# Altium schematic symbol library SCH - MCU - ATSAM - MICROCHIP ATSAMS70Q19A-AN LQFP144.SchLib: 1 symbol
Pins are listed as number, name and electrical type; pins without a type are passive.

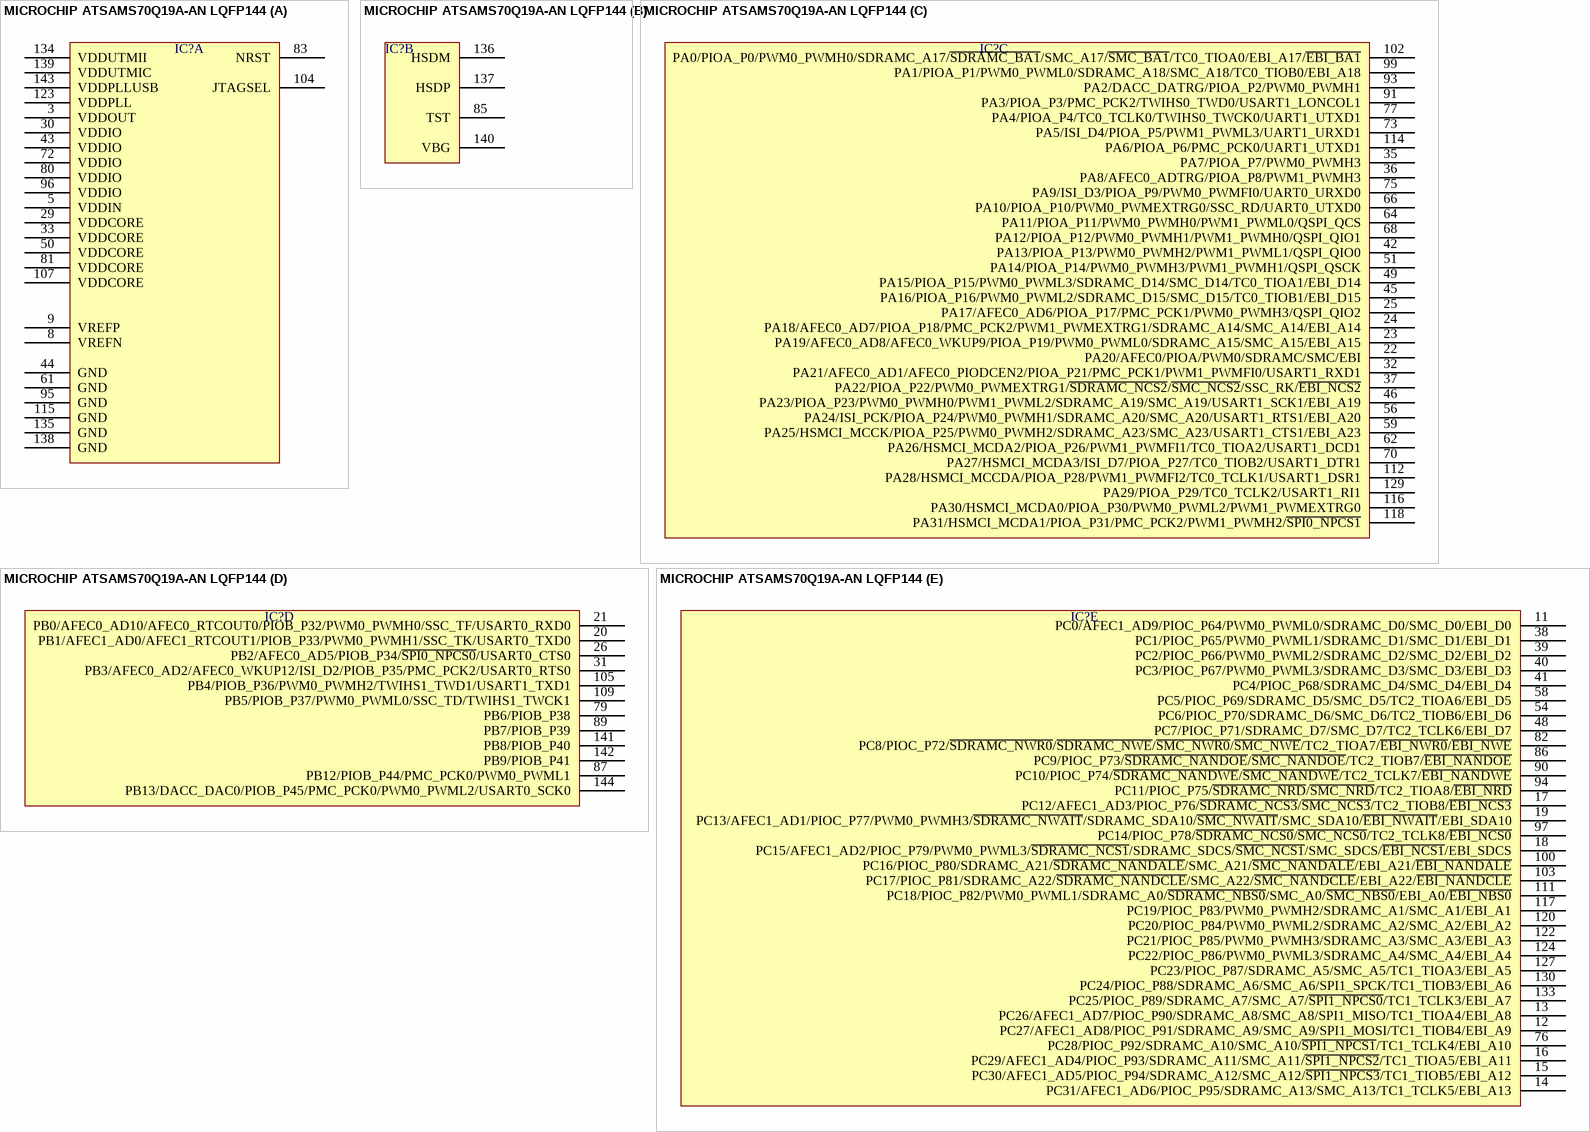
[diagram p0: symbol MICROCHIP ATSAMS70Q19A-AN LQFP144]

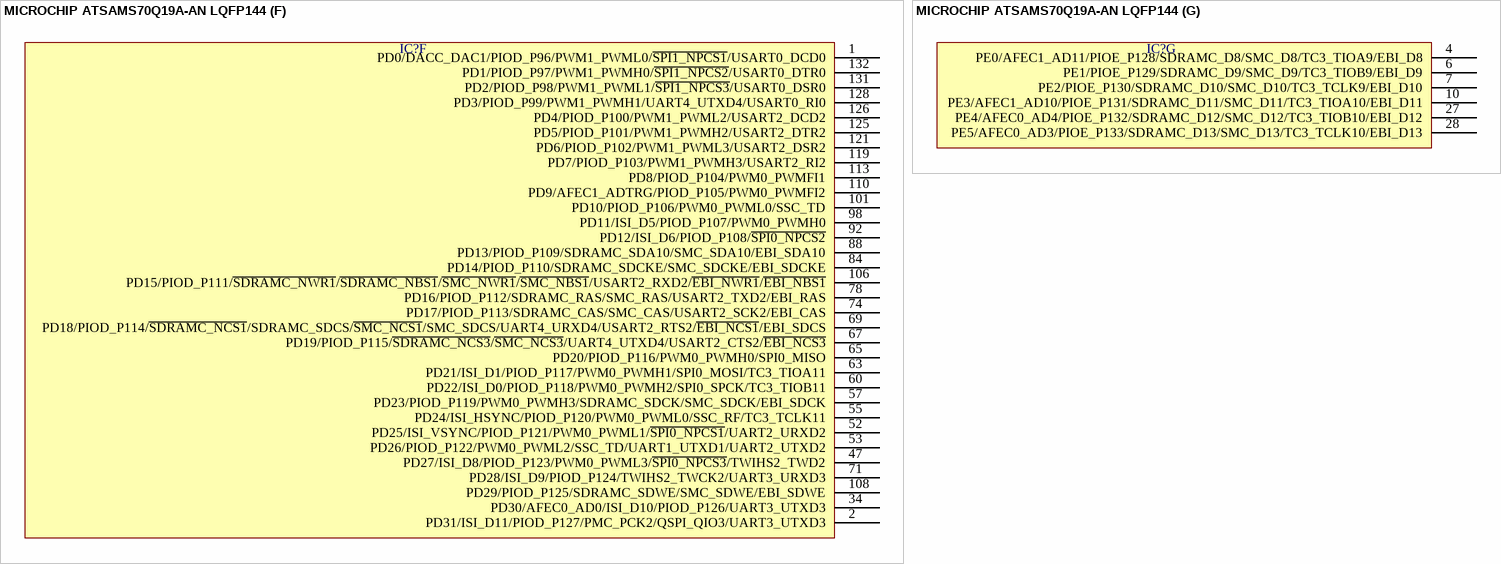
[diagram p1: symbol MICROCHIP ATSAMS70Q19A-AN LQFP144]

## MICROCHIP ATSAMS70Q19A-AN LQFP144
designator IC?  (value not drawn)
part A pins: 3 VDDOUT, 5 VDDIN, 8 VREFN, 9 VREFP, 29 VDDCORE, 30 VDDIO, 33 VDDCORE, 43 VDDIO, 44 GND, 50 VDDCORE, 61 GND, 72 VDDIO, 80 VDDIO, 81 VDDCORE, 83 NRST, 95 GND, 96 VDDIO, 104 JTAGSEL, 107 VDDCORE, 115 GND, 123 VDDPLL, 134 VDDUTMII, 135 GND, 138 GND, 139 VDDUTMIC, 143 VDDPLLUSB
part B pins: 85 TST, 136 HSDM, 137 HSDP, 140 VBG
part C pins: 22 PA20/AFEC0/PIOA/PWM0/SDRAMC/SMC/EBI, 23 PA19/AFEC0_AD8/AFEC0_WKUP9/PIOA_P19/PWM0_PWML0/SDRAMC_A15/SMC_A15/EBI_A15, 24 PA18/AFEC0_AD7/PIOA_P18/PMC_PCK2/PWM1_PWMEXTRG1/SDRAMC_A14/SMC_A14/EBI_A14, 25 PA17/AFEC0_AD6/PIOA_P17/PMC_PCK1/PWM0_PWMH3/QSPI_QIO2, 32 PA21/AFEC0_AD1/AFEC0_PIODCEN2/PIOA_P21/PMC_PCK1/PWM1_PWMFI0/USART1_RXD1, 35 PA7/PIOA_P7/PWM0_PWMH3, 36 PA8/AFEC0_ADTRG/PIOA_P8/PWM1_PWMH3, 37 PA22/PIOA_P22/PWM0_PWMEXTRG1/~{SDRAMC_NCS2}/~{SMC_NCS2}/SSC_RK/~{EBI_NCS2}, 42 PA13/PIOA_P13/PWM0_PWMH2/PWM1_PWML1/QSPI_QIO0, 45 PA16/PIOA_P16/PWM0_PWML2/SDRAMC_D15/SMC_D15/TC0_TIOB1/EBI_D15, 46 PA23/PIOA_P23/PWM0_PWMH0/PWM1_PWML2/SDRAMC_A19/SMC_A19/USART1_SCK1/EBI_A19, 49 PA15/PIOA_P15/PWM0_PWML3/SDRAMC_D14/SMC_D14/TC0_TIOA1/EBI_D14, 51 PA14/PIOA_P14/PWM0_PWMH3/PWM1_PWMH1/QSPI_QSCK, 56 PA24/ISI_PCK/PIOA_P24/PWM0_PWMH1/SDRAMC_A20/SMC_A20/USART1_RTS1/EBI_A20, 59 PA25/HSMCI_MCCK/PIOA_P25/PWM0_PWMH2/SDRAMC_A23/SMC_A23/USART1_CTS1/EBI_A23, 62 PA26/HSMCI_MCDA2/PIOA_P26/PWM1_PWMFI1/TC0_TIOA2/USART1_DCD1, 64 PA11/PIOA_P11/PWM0_PWMH0/PWM1_PWML0/QSPI_QCS, 66 PA10/PIOA_P10/PWM0_PWMEXTRG0/SSC_RD/UART0_UTXD0, 68 PA12/PIOA_P12/PWM0_PWMH1/PWM1_PWMH0/QSPI_QIO1, 70 PA27/HSMCI_MCDA3/ISI_D7/PIOA_P27/TC0_TIOB2/USART1_DTR1, 73 PA5/ISI_D4/PIOA_P5/PWM1_PWML3/UART1_URXD1, 75 PA9/ISI_D3/PIOA_P9/PWM0_PWMFI0/UART0_URXD0, 77 PA4/PIOA_P4/TC0_TCLK0/TWIHS0_TWCK0/UART1_UTXD1, 91 PA3/PIOA_P3/PMC_PCK2/TWIHS0_TWD0/USART1_LONCOL1, 93 PA2/DACC_DATRG/PIOA_P2/PWM0_PWMH1, 99 PA1/PIOA_P1/PWM0_PWML0/SDRAMC_A18/SMC_A18/TC0_TIOB0/EBI_A18, 102 PA0/PIOA_P0/PWM0_PWMH0/SDRAMC_A17/~{SDRAMC_BA1}/SMC_A17/~{SMC_BA1}/TC0_TIOA0/EBI_A17/~{EBI_BA1}, 112 PA28/HSMCI_MCCDA/PIOA_P28/PWM1_PWMFI2/TC0_TCLK1/USART1_DSR1, 114 PA6/PIOA_P6/PMC_PCK0/UART1_UTXD1, 116 PA30/HSMCI_MCDA0/PIOA_P30/PWM0_PWML2/PWM1_PWMEXTRG0, 118 PA31/HSMCI_MCDA1/PIOA_P31/PMC_PCK2/PWM1_PWMH2/~{SPI0_NPCS1}, 129 PA29/PIOA_P29/TC0_TCLK2/USART1_RI1
part D pins: 20 PB1/AFEC1_AD0/AFEC1_RTCOUT1/PIOB_P33/PWM0_PWMH1/SSC_TK/USART0_TXD0, 21 PB0/AFEC0_AD10/AFEC0_RTCOUT0/PIOB_P32/PWM0_PWMH0/SSC_TF/USART0_RXD0, 26 PB2/AFEC0_AD5/PIOB_P34/~{SPI0_NPCS0}/USART0_CTS0, 31 PB3/AFEC0_AD2/AFEC0_WKUP12/ISI_D2/PIOB_P35/PMC_PCK2/USART0_RTS0, 79 PB6/PIOB_P38, 87 PB12/PIOB_P44/PMC_PCK0/PWM0_PWML1, 89 PB7/PIOB_P39, 105 PB4/PIOB_P36/PWM0_PWMH2/TWIHS1_TWD1/USART1_TXD1, 109 PB5/PIOB_P37/PWM0_PWML0/SSC_TD/TWIHS1_TWCK1, 141 PB8/PIOB_P40, 142 PB9/PIOB_P41, 144 PB13/DACC_DAC0/PIOB_P45/PMC_PCK0/PWM0_PWML2/USART0_SCK0
part E pins: 11 PC0/AFEC1_AD9/PIOC_P64/PWM0_PWML0/SDRAMC_D0/SMC_D0/EBI_D0, 12 PC27/AFEC1_AD8/PIOC_P91/SDRAMC_A9/SMC_A9/SPI1_MOSI/TC1_TIOB4/EBI_A9, 13 PC26/AFEC1_AD7/PIOC_P90/SDRAMC_A8/SMC_A8/SPI1_MISO/TC1_TIOA4/EBI_A8, 14 PC31/AFEC1_AD6/PIOC_P95/SDRAMC_A13/SMC_A13/TC1_TCLK5/EBI_A13, 15 PC30/AFEC1_AD5/PIOC_P94/SDRAMC_A12/SMC_A12/~{SPI1_NPCS3}/TC1_TIOB5/EBI_A12, 16 PC29/AFEC1_AD4/PIOC_P93/SDRAMC_A11/SMC_A11/~{SPI1_NPCS2}/TC1_TIOA5/EBI_A11, 17 PC12/AFEC1_AD3/PIOC_P76/~{SDRAMC_NCS3}/~{SMC_NCS3}/TC2_TIOB8/~{EBI_NCS3}, 18 PC15/AFEC1_AD2/PIOC_P79/PWM0_PWML3/~{SDRAMC_NCS1}/SDRAMC_SDCS/~{SMC_NCS1}/SMC_SDCS/~{EBI_NCS1}/EBI_SDCS, 19 PC13/AFEC1_AD1/PIOC_P77/PWM0_PWMH3/~{SDRAMC_NWAIT}/SDRAMC_SDA10/~{SMC_NWAIT}/SMC_SDA10/~{EBI_NWAIT}/EBI_SDA10, 38 PC1/PIOC_P65/PWM0_PWML1/SDRAMC_D1/SMC_D1/EBI_D1, 39 PC2/PIOC_P66/PWM0_PWML2/SDRAMC_D2/SMC_D2/EBI_D2, 40 PC3/PIOC_P67/PWM0_PWML3/SDRAMC_D3/SMC_D3/EBI_D3, 41 PC4/PIOC_P68/SDRAMC_D4/SMC_D4/EBI_D4, 48 PC7/PIOC_P71/SDRAMC_D7/SMC_D7/TC2_TCLK6/EBI_D7, 54 PC6/PIOC_P70/SDRAMC_D6/SMC_D6/TC2_TIOB6/EBI_D6, 58 PC5/PIOC_P69/SDRAMC_D5/SMC_D5/TC2_TIOA6/EBI_D5, 76 PC28/PIOC_P92/SDRAMC_A10/SMC_A10/~{SPI1_NPCS1}/TC1_TCLK4/EBI_A10, 82 PC8/PIOC_P72/~{SDRAMC_NWR0}/~{SDRAMC_NWE}/~{SMC_NWR0}/~{SMC_NWE}/TC2_TIOA7/~{EBI_NWR0}/~{EBI_NWE}, 86 PC9/PIOC_P73/~{SDRAMC_NANDOE}/~{SMC_NANDOE}/TC2_TIOB7/~{EBI_NANDOE}, 90 PC10/PIOC_P74/~{SDRAMC_NANDWE}/~{SMC_NANDWE}/TC2_TCLK7/~{EBI_NANDWE}, 94 PC11/PIOC_P75/~{SDRAMC_NRD}/~{SMC_NRD}/TC2_TIOA8/~{EBI_NRD}, 97 PC14/PIOC_P78/~{SDRAMC_NCS0}/~{SMC_NCS0}/TC2_TCLK8/~{EBI_NCS0}, 100 PC16/PIOC_P80/SDRAMC_A21/~{SDRAMC_NANDALE}/SMC_A21/~{SMC_NANDALE}/EBI_A21/~{EBI_NANDALE}, 103 PC17/PIOC_P81/SDRAMC_A22/~{SDRAMC_NANDCLE}/SMC_A22/~{SMC_NANDCLE}/EBI_A22/~{EBI_NANDCLE}, 111 PC18/PIOC_P82/PWM0_PWML1/SDRAMC_A0/~{SDRAMC_NBS0}/SMC_A0/~{SMC_NBS0}/EBI_A0/~{EBI_NBS0}, 117 PC19/PIOC_P83/PWM0_PWMH2/SDRAMC_A1/SMC_A1/EBI_A1, 120 PC20/PIOC_P84/PWM0_PWML2/SDRAMC_A2/SMC_A2/EBI_A2, 122 PC21/PIOC_P85/PWM0_PWMH3/SDRAMC_A3/SMC_A3/EBI_A3, 124 PC22/PIOC_P86/PWM0_PWML3/SDRAMC_A4/SMC_A4/EBI_A4, 127 PC23/PIOC_P87/SDRAMC_A5/SMC_A5/TC1_TIOA3/EBI_A5, 130 PC24/PIOC_P88/SDRAMC_A6/SMC_A6/SPI1_SPCK/TC1_TIOB3/EBI_A6, 133 PC25/PIOC_P89/SDRAMC_A7/SMC_A7/~{SPI1_NPCS0}/TC1_TCLK3/EBI_A7
part F pins: 1 PD0/DACC_DAC1/PIOD_P96/PWM1_PWML0/~{SPI1_NPCS1}/USART0_DCD0, 2 PD31/ISI_D11/PIOD_P127/PMC_PCK2/QSPI_QIO3/UART3_UTXD3, 34 PD30/AFEC0_AD0/ISI_D10/PIOD_P126/UART3_UTXD3, 47 PD27/ISI_D8/PIOD_P123/PWM0_PWML3/~{SPI0_NPCS3}/TWIHS2_TWD2, 52 PD25/ISI_VSYNC/PIOD_P121/PWM0_PWML1/~{SPI0_NPCS1}/UART2_URXD2, 53 PD26/PIOD_P122/PWM0_PWML2/SSC_TD/UART1_UTXD1/UART2_UTXD2, 55 PD24/ISI_HSYNC/PIOD_P120/PWM0_PWML0/SSC_RF/TC3_TCLK11, 57 PD23/PIOD_P119/PWM0_PWMH3/SDRAMC_SDCK/SMC_SDCK/EBI_SDCK, 60 PD22/ISI_D0/PIOD_P118/PWM0_PWMH2/SPI0_SPCK/TC3_TIOB11, 63 PD21/ISI_D1/PIOD_P117/PWM0_PWMH1/SPI0_MOSI/TC3_TIOA11, 65 PD20/PIOD_P116/PWM0_PWMH0/SPI0_MISO, 67 PD19/PIOD_P115/~{SDRAMC_NCS3}/~{SMC_NCS3}/UART4_UTXD4/USART2_CTS2/~{EBI_NCS3}, 69 PD18/PIOD_P114/~{SDRAMC_NCS1}/SDRAMC_SDCS/~{SMC_NCS1}/SMC_SDCS/UART4_URXD4/USART2_RTS2/~{EBI_NCS1}/EBI_SDCS, 71 PD28/ISI_D9/PIOD_P124/TWIHS2_TWCK2/UART3_URXD3, 74 PD17/PIOD_P113/SDRAMC_CAS/SMC_CAS/USART2_SCK2/EBI_CAS, 78 PD16/PIOD_P112/SDRAMC_RAS/SMC_RAS/USART2_TXD2/EBI_RAS, 84 PD14/PIOD_P110/SDRAMC_SDCKE/SMC_SDCKE/EBI_SDCKE, 88 PD13/PIOD_P109/SDRAMC_SDA10/SMC_SDA10/EBI_SDA10, 92 PD12/ISI_D6/PIOD_P108/~{SPI0_NPCS2}, 98 PD11/ISI_D5/PIOD_P107/PWM0_PWMH0, 101 PD10/PIOD_P106/PWM0_PWML0/SSC_TD, 106 PD15/PIOD_P111/~{SDRAMC_NWR1}/~{SDRAMC_NBS1}/~{SMC_NWR1}/~{SMC_NBS1}/USART2_RXD2/~{EBI_NWR1}/~{EBI_NBS1}, 108 PD29/PIOD_P125/SDRAMC_SDWE/SMC_SDWE/EBI_SDWE, 110 PD9/AFEC1_ADTRG/PIOD_P105/PWM0_PWMFI2, 113 PD8/PIOD_P104/PWM0_PWMFI1, 119 PD7/PIOD_P103/PWM1_PWMH3/USART2_RI2, 121 PD6/PIOD_P102/PWM1_PWML3/USART2_DSR2, 125 PD5/PIOD_P101/PWM1_PWMH2/USART2_DTR2, 126 PD4/PIOD_P100/PWM1_PWML2/USART2_DCD2, 128 PD3/PIOD_P99/PWM1_PWMH1/UART4_UTXD4/USART0_RI0, 131 PD2/PIOD_P98/PWM1_PWML1/~{SPI1_NPCS3}/USART0_DSR0, 132 PD1/PIOD_P97/PWM1_PWMH0/~{SPI1_NPCS2}/USART0_DTR0
part G pins: 4 PE0/AFEC1_AD11/PIOE_P128/SDRAMC_D8/SMC_D8/TC3_TIOA9/EBI_D8, 6 PE1/PIOE_P129/SDRAMC_D9/SMC_D9/TC3_TIOB9/EBI_D9, 7 PE2/PIOE_P130/SDRAMC_D10/SMC_D10/TC3_TCLK9/EBI_D10, 10 PE3/AFEC1_AD10/PIOE_P131/SDRAMC_D11/SMC_D11/TC3_TIOA10/EBI_D11, 27 PE4/AFEC0_AD4/PIOE_P132/SDRAMC_D12/SMC_D12/TC3_TIOB10/EBI_D12, 28 PE5/AFEC0_AD3/PIOE_P133/SDRAMC_D13/SMC_D13/TC3_TCLK10/EBI_D13